# EAGLE library part MC-1.5/8-GF-3.81 (library phoenix-mc)
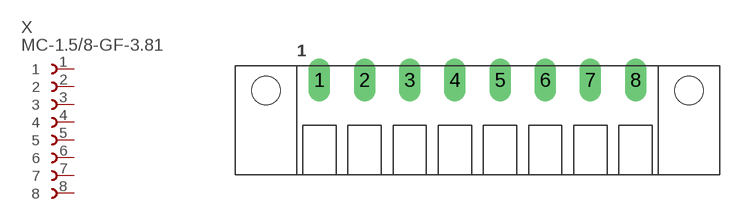
[diagram p0: symbol with the pads of MC-1.5/8-GF-3.81; footprint MC-1.5/8-GF-3.81]

Designator prefix X

## MC-1.5/8-GF-3.81  [MC-1.5/8-GF-3.81]
1  1
2  2
3  3
4  4
5  5
6  6
7  7
8  8

## Footprint MC-1.5/8-GF-3.81 (pad centres in mm)
drill 1.2 long: 1 -13.335,0; 2 -9.525,0; 3 -5.715,0; 4 -1.905,0; 5 1.905,0; 6 5.715,0; 7 9.525,0; 8 13.335,0
hole 2.4 at -17.835,-0.9
hole 2.4 at 17.835,-0.9